# Altium schematic symbol library WR-TBL_Rising Cage Clamp.SchLib: 435 symbols (part 6 of 7)
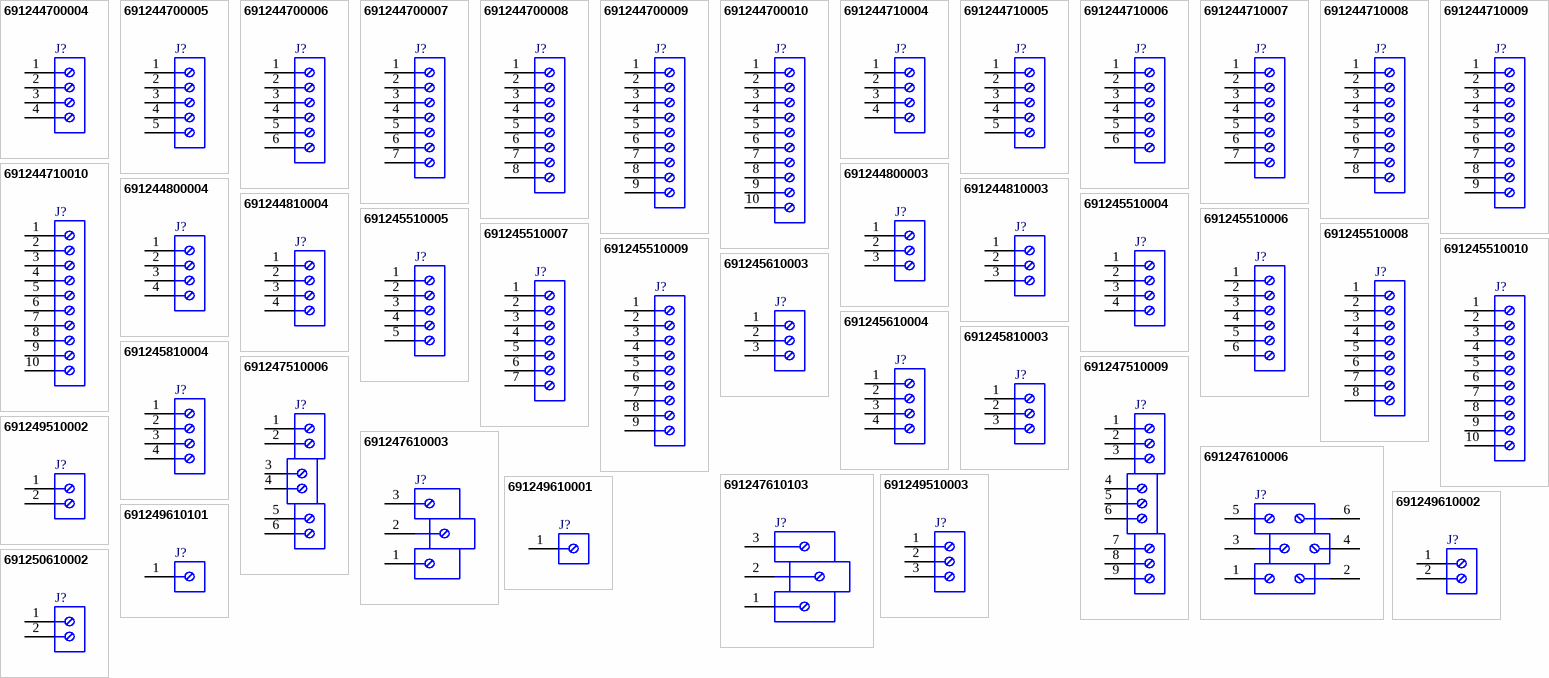
[diagram p15: symbols 691244700004 to 691250610002]

## 691245510010
designator J?
WR-TBL Serie 2455 Horizontal Cable Entry, Rising Cage Clamp, pitch 5.08mm, 10p; Part Number: 691245510010; Compliance: Lead free / RoHS; Modularity: No; PCB/Cable/Panel: PCB; Pin Number: 10; Rated Current [UL]: 16A; Working Voltage [UL]: 300VAC; ComponentLink1Description: Manufacturer; ComponentLink1URL: http://www.we-online.de; ComponentLink2URL: https://katalog.we-online.de/em/datasheet/691245510010.pdf; ComponentLink2Description: Datasheet; Mounting Technology: THT; Packaging: Box; Operating Temperature: -30 to +120degC; Pitch: 5.08mm; Published Date: October 2019; Type: Horizontal; Publisher: Wurth Elektronik; Application: Rising Cage Clamp
footprint 691245510010
pins: 1, 2, 3, 4, 5, 6, 7, 8, 9, 10

## 691245610003
designator J?
WR-TBL Serie 2456 Horizontal Cable Entry, Rising Cage Clamp, pitch 10.16mm, 3p; Part Number: 691245610003; Compliance: Lead free / RoHS; Modularity: No; PCB/Cable/Panel: PCB; Pin Number: 3; Rated Current [UL]: 16A; Working Voltage [UL]: 300VAC; ComponentLink1Description: Manufacturer; ComponentLink1URL: http://www.we-online.de; ComponentLink2URL: https://katalog.we-online.de/em/datasheet/691245610003.pdf; ComponentLink2Description: Datasheet; Mounting Technology: THT; Packaging: Box; Operating Temperature: -30 to +120degC; Pitch: 10.16mm; Published Date: October 2019; Type: Horizontal; Publisher: Wurth Elektronik; Application: Rising Cage Clamp
footprint 691245610003
pins: 1, 2, 3

## 691245610004
designator J?
WR-TBL Serie 2456 Horizontal Cable Entry, Rising Cage Clamp, pitch 10.16mm, 4p; Part Number: 691245610004; Compliance: Lead free / RoHS; Modularity: No; PCB/Cable/Panel: PCB; Pin Number: 4; Rated Current [UL]: 16A; Working Voltage [UL]: 300VAC; ComponentLink1Description: Manufacturer; ComponentLink1URL: http://www.we-online.de; ComponentLink2URL: https://katalog.we-online.de/em/datasheet/691245610004.pdf; ComponentLink2Description: Datasheet; Mounting Technology: THT; Packaging: Box; Operating Temperature: -30 to +120degC; Pitch: 10.16mm; Published Date: October 2019; Type: Horizontal; Publisher: Wurth Elektronik; Application: Rising Cage Clamp
footprint 691245610004
pins: 1, 2, 3, 4

## 691245810003
designator J?
WR-TBL Serie 2458 Horizontal Entry, Rising Cage Clamp, pitch 10mm, 3p; Part Number: 691245810003; Compliance: Lead free / RoHS; Modularity: No; PCB/Cable/Panel: PCB; Pin Number: 3; Rated Current [UL]: 16A; Working Voltage [UL]: 300VAC; ComponentLink1Description: Manufacturer; ComponentLink1URL: http://www.we-online.de; ComponentLink2URL: https://katalog.we-online.de/em/datasheet/691245810003.pdf; ComponentLink2Description: Datasheet; Mounting Technology: THT; Packaging: Box; Operating Temperature: -30 to +120degC; Pitch: 10mm; Published Date: October 2019; Type: Horizontal; Publisher: Wurth Elektronik; Application: Rising Cage Clamp
footprint 691245810003
pins: 1, 2, 3

## 691245810004
designator J?
WR-TBL Serie 2458 Horizontal Entry, Rising Cage Clamp, pitch 10mm, 4p; Part Number: 691245810004; Compliance: Lead free / RoHS; Modularity: No; PCB/Cable/Panel: PCB; Pin Number: 4; Rated Current [UL]: 16A; Working Voltage [UL]: 300VAC; ComponentLink1Description: Manufacturer; ComponentLink1URL: http://www.we-online.de; ComponentLink2URL: https://katalog.we-online.de/em/datasheet/691245810004.pdf; ComponentLink2Description: Datasheet; Mounting Technology: THT; Packaging: Box; Operating Temperature: -30 to +120degC; Pitch: 10mm; Published Date: October 2019; Type: Horizontal; Publisher: Wurth Elektronik; Application: Rising Cage Clamp
footprint 691245810004
pins: 1, 2, 3, 4

## 691247510006
designator J?
WR-TBL Serie 2475 Tripel Level Horizontal Entry, Rising Cage Clamp, pitch 5.08mm, 6p; Part Number: 691247510006; Compliance: Lead free / RoHS; Modularity: Yes; PCB/Cable/Panel: PCB; Pin Number: 6; Rated Current [UL]: 20A; Working Voltage [UL]: 300VAC; ComponentLink1Description: Manufacturer; ComponentLink1URL: http://www.we-online.de; ComponentLink2URL: https://katalog.we-online.de/em/datasheet/691247510006.pdf; ComponentLink2Description: Datasheet; Mounting Technology: THT; Packaging: Box; Operating Temperature: -30 to +120degC; Pitch: 5.08mm; Published Date: October 2019; Type: Tripel Level Horizontal; Publisher: Wurth Elektronik; Application: Rising Cage Clamp
footprint 691247510006
pins: 1, 2, 3, 4, 5, 6

## 691247510009
designator J?
WR-TBL Serie 2475 Tripel Level Horizontal Entry, Rising Cage Clamp, pitch 5.08mm, 9p; Part Number: 691247510009; Compliance: Lead free / RoHS; Modularity: Yes; PCB/Cable/Panel: PCB; Pin Number: 9; Rated Current [UL]: 20A; Working Voltage [UL]: 300VAC; ComponentLink1Description: Manufacturer; ComponentLink1URL: http://www.we-online.de; ComponentLink2URL: https://katalog.we-online.de/em/datasheet/691247510009.pdf; ComponentLink2Description: Datasheet; Mounting Technology: THT; Packaging: Box; Operating Temperature: -30 to +120degC; Pitch: 5.08mm; Published Date: October 2019; Type: Tripel Level Horizontal; Publisher: Wurth Elektronik; Application: Rising Cage Clamp
footprint 691247510009
pins: 1, 2, 3, 4, 5, 6, 7, 8, 9

## 691247610003
designator J?
WR-TBL Serie 2476 Tripel Level Horizontal Entry, Rising Cage Clamp, pitch 10.16mm, 3p; Part Number: 691247610003; Compliance: Lead free / RoHS; Modularity: Yes; PCB/Cable/Panel: PCB; Pin Number: 3; Rated Current [UL]: 20A; Working Voltage [UL]: 300VAC; ComponentLink1Description: Manufacturer; ComponentLink1URL: http://www.we-online.de; ComponentLink2URL: https://katalog.we-online.de/em/datasheet/691247610003.pdf; ComponentLink2Description: Datasheet; Mounting Technology: THT; Packaging: Box; Operating Temperature: -30 to +120degC; Pitch: 10.16mm; Published Date: October 2019; Type: Tripel Level Horizontal; Publisher: Wurth Elektronik; Application: Rising Cage Clamp
footprint 691247610003
pins: 1, 2, 3

## 691247610006
designator J?
WR-TBL Serie 2476 Tripel Level Horizontal Entry, Rising Cage Clamp, pitch 10.16mm, 6p; Part Number: 691247610006; Compliance: Lead free / RoHS; Modularity: Yes; PCB/Cable/Panel: PCB; Pin Number: 6; Rated Current [UL]: 20A; Working Voltage [UL]: 300VAC; ComponentLink1Description: Manufacturer; ComponentLink1URL: http://www.we-online.de; ComponentLink2URL: https://katalog.we-online.de/em/datasheet/691247610006.pdf; ComponentLink2Description: Datasheet; Mounting Technology: THT; Packaging: Box; Operating Temperature: -30 to +120degC; Pitch: 10.16mm; Published Date: October 2019; Type: Tripel Level Horizontal; Publisher: Wurth Elektronik; Application: Rising Cage Clamp
footprint 691247610006
pins: 1, 2, 3, 4, 5, 6

## 691247610103
designator J?
WR-TBL Serie 2476 Tripel Level Horizontal Entry, Rising Cage Clamp, pitch 10.16mm, 3p; Part Number: 691247610103; Compliance: Lead free / RoHS; Modularity: Yes; PCB/Cable/Panel: PCB; Pin Number: 3; Rated Current [UL]: 20A; Working Voltage [UL]: 300VAC; ComponentLink1Description: Manufacturer; ComponentLink1URL: http://www.we-online.de; ComponentLink2URL: https://katalog.we-online.de/em/datasheet/691247610103.pdf; ComponentLink2Description: Datasheet; Mounting Technology: THT; Packaging: Box; Operating Temperature: -30 to +120degC; Pitch: 10.16mm; Published Date: October 2019; Type: Tripel Level Horizontal; Publisher: Wurth Elektronik; Application: Rising Cage Clamp
footprint 691247610103
pins: 1, 2, 3

## 691249510002
designator J?
WR-TBL Serie 2495 Horizontal Entry, Rising Cage Clamp, pitch 5.08mm, 2p; Part Number: 691249510002; Compliance: Lead free / RoHS; Modularity: Yes; PCB/Cable/Panel: PCB; Pin Number: 2; Rated Current [UL]: 20A; Working Voltage [UL]: 300VAC; ComponentLink1Description: Manufacturer; ComponentLink1URL: http://www.we-online.de; ComponentLink2URL: https://katalog.we-online.de/em/datasheet/691249510002.pdf; ComponentLink2Description: Datasheet; Mounting Technology: THT; Packaging: Box; Operating Temperature: -30 to +120degC; Pitch: 5.08mm; Published Date: October 2019; Type: Horizontal; Publisher: Wurth Elektronik; Application: Rising Cage Clamp
footprint 691249510002
pins: 1, 2

## 691249510003
designator J?
WR-TBL Serie 2495 Horizontal Entry, Rising Cage Clamp, pitch 5.08mm, 3p; Part Number: 691249510003; Compliance: Lead free / RoHS; Modularity: Yes; PCB/Cable/Panel: PCB; Pin Number: 3; Rated Current [UL]: 20A; Working Voltage [UL]: 300VAC; ComponentLink1Description: Manufacturer; ComponentLink1URL: http://www.we-online.de; ComponentLink2URL: https://katalog.we-online.de/em/datasheet/691249510003.pdf; ComponentLink2Description: Datasheet; Mounting Technology: THT; Packaging: Box; Operating Temperature: -30 to +120degC; Pitch: 5.08mm; Published Date: October 2019; Type: Horizontal; Publisher: Wurth Elektronik; Application: Rising Cage Clamp
footprint 691249510003
pins: 1, 2, 3

## 691249610001
designator J?
WR-TBL Serie 2496 Horizontal Entry, Rising Cage Clamp, pitch 10.16mm, 1p; Part Number: 691249610001; Compliance: Lead free / RoHS; Modularity: Yes; PCB/Cable/Panel: PCB; Pin Number: 1; Rated Current [UL]: 20A; Working Voltage [UL]: 300VAC; ComponentLink1Description: Manufacturer; ComponentLink1URL: http://www.we-online.de; ComponentLink2URL: https://katalog.we-online.de/em/datasheet/691249610001.pdf; ComponentLink2Description: Datasheet; Mounting Technology: THT; Packaging: Box; Operating Temperature: -30 to +120degC; Pitch: 10.16mm; Published Date: October 2019; Type: Horizontal; Publisher: Wurth Elektronik; Application: Rising Cage Clamp
footprint 691249610001
pins: 1

## 691249610002
designator J?
WR-TBL Serie 2496 Horizontal Entry, Rising Cage Clamp, pitch 10.16mm, 2p; Part Number: 691249610002; Compliance: Lead free / RoHS; Modularity: Yes; PCB/Cable/Panel: PCB; Pin Number: 2; Rated Current [UL]: 20A; Working Voltage [UL]: 300VAC; ComponentLink1Description: Manufacturer; ComponentLink1URL: http://www.we-online.de; ComponentLink2URL: https://katalog.we-online.de/em/datasheet/691249610002.pdf; ComponentLink2Description: Datasheet; Mounting Technology: THT; Packaging: Box; Operating Temperature: -30 to +120degC; Pitch: 10.16mm; Published Date: October 2019; Type: Horizontal; Publisher: Wurth Elektronik; Application: Rising Cage Clamp
footprint 691249610002
pins: 1, 2

## 691249610101
designator J?
WR-TBL Serie 2496 Horizontal Entry, Rising Cage Clamp, pitch 10.16mm, 1p; Part Number: 691249610101; Compliance: Lead free / RoHS; Modularity: Yes; PCB/Cable/Panel: PCB; Pin Number: 1; Rated Current [UL]: 20A; Working Voltage [UL]: 300VAC; ComponentLink1Description: Manufacturer; ComponentLink1URL: http://www.we-online.de; ComponentLink2URL: https://katalog.we-online.de/em/datasheet/691249610101.pdf; ComponentLink2Description: Datasheet; Mounting Technology: THT; Packaging: Box; Operating Temperature: -30 to +120degC; Pitch: 10.16mm; Published Date: October 2019; Type: Horizontal; Publisher: Wurth Elektronik; Application: Rising Cage Clamp
footprint 691249610101
pins: 1

## 691250610002
designator J?
WR-TBL Serie 2506 Horizontal Entry Modular, Rising Cage Clamp, pitch 6.35mm, 2p; Part Number: 691250610002; Compliance: ROHS & Reach; Modularity: Yes; PCB/Cable/Panel: PCB; Pin Number: 2; Rated Current [UL]: 24A; Working Voltage [UL]: 300VAC; ComponentLink1Description: Manufacturer; ComponentLink1URL: http://www.we-online.de; ComponentLink2URL: https://katalog.we-online.de/em/datasheet/691250610002.pdf; ComponentLink2Description: Datasheet; Mounting Technology: THT; Packaging: Box; Operating Temperature: -30 to +120degC; Pitch: 6.35mm; Published Date: October 2019; Type: Horizontal; Publisher: Wurth Elektronik; Application: Rising Cage Clamp
footprint 691250610002
pins: 1, 2

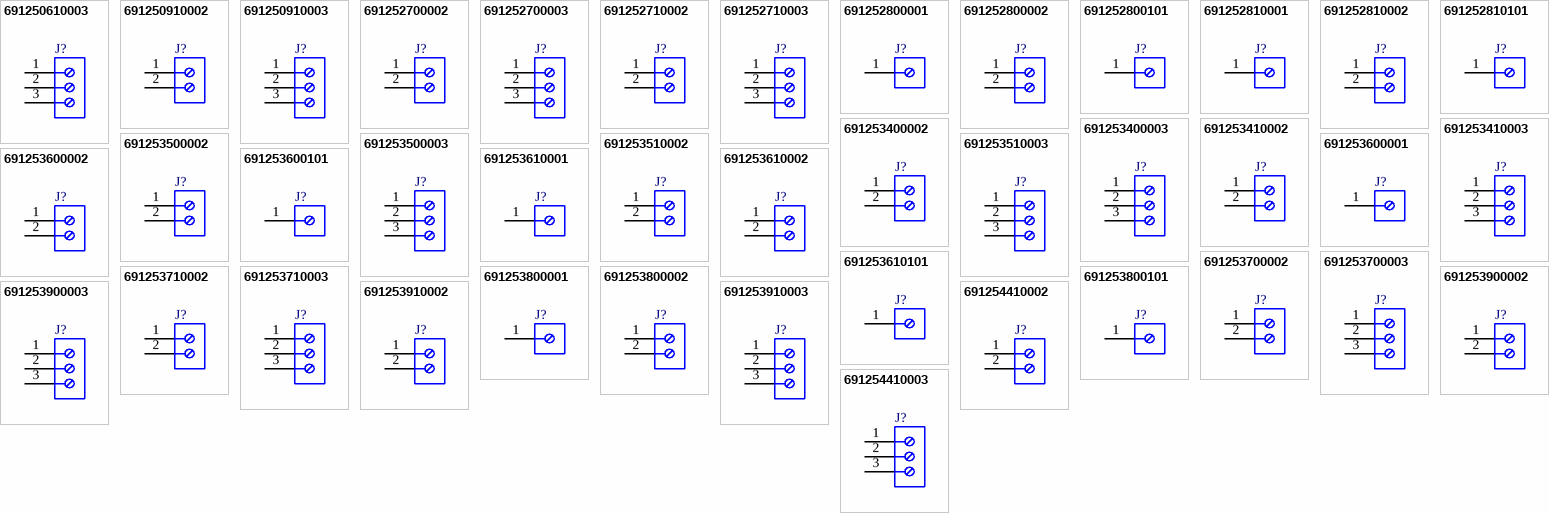
[diagram p9: symbols 691250610003 to 691254410003]

## 691250610003
designator J?
WR-TBL Serie 2506 Horizontal Entry Modular, Rising Cage Clamp, pitch 6.35mm, 3p; Part Number: 691250610003; Compliance: ROHS & Reach; Modularity: Yes; PCB/Cable/Panel: PCB; Pin Number: 3; Rated Current [UL]: 24A; Working Voltage [UL]: 300VAC; ComponentLink1Description: Manufacturer; ComponentLink1URL: http://www.we-online.de; ComponentLink2URL: https://katalog.we-online.de/em/datasheet/691250610003.pdf; ComponentLink2Description: Datasheet; Mounting Technology: THT; Packaging: Box; Operating Temperature: -30 to +120degC; Pitch: 6.35mm; Published Date: October 2019; Type: Horizontal; Publisher: Wurth Elektronik; Application: Rising Cage Clamp
footprint 691250610003
pins: 1, 2, 3

## 691250910002
designator J?
WR-TBL Serie 2509 Horizontal Entry Modular, Rising Cage Clamp, pitch 9.52mm, 2p; Part Number: 691250910002; Compliance: ROHS & Reach; Modularity: Yes; PCB/Cable/Panel: PCB; Pin Number: 2; Rated Current [UL]: 24A; Working Voltage [UL]: 300VAC; ComponentLink1Description: Manufacturer; ComponentLink1URL: http://www.we-online.de; ComponentLink2URL: https://katalog.we-online.de/em/datasheet/691250910002.pdf; ComponentLink2Description: Datasheet; Mounting Technology: THT; Packaging: Box; Operating Temperature: -30 to +120degC; Pitch: 9.52mm; Published Date: October 2019; Type: Horizontal; Publisher: Wurth Elektronik; Application: Rising Cage Clamp
footprint 691250910002
pins: 1, 2

## 691250910003
designator J?
WR-TBL Serie 2509 Horizontal Entry Modular, Rising Cage Clamp, pitch 9.52mm, 3p; Part Number: 691250910003; Compliance: ROHS & Reach; Modularity: Yes; PCB/Cable/Panel: PCB; Pin Number: 3; Rated Current [UL]: 24A; Working Voltage [UL]: 300VAC; ComponentLink1Description: Manufacturer; ComponentLink1URL: http://www.we-online.de; ComponentLink2URL: https://katalog.we-online.de/em/datasheet/691250910003.pdf; ComponentLink2Description: Datasheet; Mounting Technology: THT; Packaging: Box; Operating Temperature: -30 to +120degC; Pitch: 9.52mm; Published Date: October 2019; Type: Horizontal; Publisher: Wurth Elektronik; Application: Rising Cage Clamp
footprint 691250910003
pins: 1, 2, 3

## 691252700002
designator J?
WR-TBL Serie 2527 Vertical Entry Modular, Rising Cage Clamp, pitch 5mm, 2p; Part Number: 691252700002; Compliance: ROHS & Reach; Modularity: Yes; PCB/Cable/Panel: PCB; Pin Number: 2; Rated Current [UL]: 16A; Working Voltage [UL]: 300VAC; ComponentLink1Description: Manufacturer; ComponentLink1URL: http://www.we-online.de; ComponentLink2URL: https://katalog.we-online.de/em/datasheet/691252700002.pdf; ComponentLink2Description: Datasheet; Mounting Technology: THT; Packaging: Box; Operating Temperature: -30 to +120degC; Pitch: 5mm; Published Date: October 2019; Type: Vertical; Publisher: Wurth Elektronik; Application: Rising Cage Clamp
footprint 691252700002
pins: 1, 2

## 691252700003
designator J?
WR-TBL Serie 2527 Vertical Entry Modular, Rising Cage Clamp, pitch 5mm, 3p; Part Number: 691252700003; Compliance: ROHS & Reach; Modularity: Yes; PCB/Cable/Panel: PCB; Pin Number: 3; Rated Current [UL]: 16A; Working Voltage [UL]: 300VAC; ComponentLink1Description: Manufacturer; ComponentLink1URL: http://www.we-online.de; ComponentLink2URL: https://katalog.we-online.de/em/datasheet/691252700003.pdf; ComponentLink2Description: Datasheet; Mounting Technology: THT; Packaging: Box; Operating Temperature: -30 to +120degC; Pitch: 5mm; Published Date: October 2019; Type: Vertical; Publisher: Wurth Elektronik; Application: Rising Cage Clamp
footprint 691252700003
pins: 1, 2, 3

## 691252710002
designator J?
WR-TBL Serie 2527 Horizontal Entry Modular, Rising Cage Clamp, pitch 5mm, 2p; Part Number: 691252710002; Compliance: ROHS & Reach; Modularity: Yes; PCB/Cable/Panel: PCB; Pin Number: 2; Rated Current [UL]: 16A; Working Voltage [UL]: 300VAC; ComponentLink1Description: Manufacturer; ComponentLink1URL: http://www.we-online.de; ComponentLink2URL: https://katalog.we-online.de/em/datasheet/691252710002.pdf; ComponentLink2Description: Datasheet; Mounting Technology: THT; Packaging: Box; Operating Temperature: -30 to +120degC; Pitch: 5mm; Published Date: October 2019; Type: Horizontal; Publisher: Wurth Elektronik; Application: Rising Cage Clamp
footprint 691252710002
pins: 1, 2

## 691252710003
designator J?
WR-TBL Serie 2527 Horizontal Entry Modular, Rising Cage Clamp, pitch 5mm, 3p; Part Number: 691252710003; Compliance: ROHS & Reach; Modularity: Yes; PCB/Cable/Panel: PCB; Pin Number: 3; Rated Current [UL]: 16A; Working Voltage [UL]: 300VAC; ComponentLink1Description: Manufacturer; ComponentLink1URL: http://www.we-online.de; ComponentLink2URL: https://katalog.we-online.de/em/datasheet/691252710003.pdf; ComponentLink2Description: Datasheet; Mounting Technology: THT; Packaging: Box; Operating Temperature: -30 to +120degC; Pitch: 5mm; Published Date: October 2019; Type: Horizontal; Publisher: Wurth Elektronik; Application: Rising Cage Clamp
footprint 691252710003
pins: 1, 2, 3

## 691252800001
designator J?
WR-TBL Serie 2528 Vertical Entry Modular, Rising Cage Clamp, pitch 10mm, 1p; Part Number: 691252800001; Compliance: Lead free / RoHS; Modularity: Yes; PCB/Cable/Panel: PCB; Pin Number: 1; Rated Current [UL]: 16A; Working Voltage [UL]: 300VAC; ComponentLink1Description: Manufacturer; ComponentLink1URL: http://www.we-online.de; ComponentLink2URL: https://katalog.we-online.de/em/datasheet/691252800001.pdf; ComponentLink2Description: Datasheet; Mounting Technology: THT; Packaging: Box; Operating Temperature: -30 to +120degC; Pitch: 10mm; Published Date: October 2019; Type: Vertical; Publisher: Wurth Elektronik; Application: Rising Cage Clamp
footprint 691252800001
pins: 1

## 691252800002
designator J?
WR-TBL Serie 2528 Vertical Entry Modular, Rising Cage Clamp, pitch 10mm, 2p; Part Number: 691252800002; Compliance: Lead free / RoHS; Modularity: Yes; PCB/Cable/Panel: PCB; Pin Number: 2; Rated Current [UL]: 16A; Working Voltage [UL]: 300VAC; ComponentLink1Description: Manufacturer; ComponentLink1URL: http://www.we-online.de; ComponentLink2URL: https://katalog.we-online.de/em/datasheet/691252800002.pdf; ComponentLink2Description: Datasheet; Mounting Technology: THT; Packaging: Box; Operating Temperature: -30 to +120degC; Pitch: 10mm; Published Date: October 2019; Type: Vertical; Publisher: Wurth Elektronik; Application: Rising Cage Clamp
footprint 691252800002
pins: 1, 2

## 691252800101
designator J?
WR-TBL Serie 2528 Vertical Entry Modular, Rising Cage Clamp, pitch 10mm, 1p; Part Number: 691252800101; Compliance: Lead free / RoHS; Modularity: Yes; PCB/Cable/Panel: PCB; Pin Number: 1; Rated Current [UL]: 16A; Working Voltage [UL]: 300VAC; ComponentLink1Description: Manufacturer; ComponentLink1URL: http://www.we-online.de; ComponentLink2URL: https://katalog.we-online.de/em/datasheet/691252800101.pdf; ComponentLink2Description: Datasheet; Mounting Technology: THT; Packaging: Box; Operating Temperature: -30 to +120degC; Pitch: 10mm; Published Date: October 2019; Type: Vertical; Publisher: Wurth Elektronik; Application: Rising Cage Clamp
footprint 691252800101
pins: 1

## 691252810001
designator J?
WR-TBL Serie 2528 Horizontal Entry Modular, Rising Cage Clamp, pitch 10mm, 1p; Part Number: 691252810001; Compliance: RoHS; Modularity: Yes; PCB/Cable/Panel: PCB; Pin Number: 1; Rated Current [UL]: 16A; Working Voltage [UL]: 300VAC; ComponentLink1Description: Manufacturer; ComponentLink1URL: http://www.we-online.de; ComponentLink2URL: https://katalog.we-online.de/em/datasheet/691252810001.pdf; ComponentLink2Description: Datasheet; Mounting Technology: THT; Packaging: Box; Operating Temperature: -30 to +120degC; Pitch: 10mm; Published Date: October 2019; Type: Horizontal; Publisher: Wurth Elektronik; Application: Rising Cage Clamp
footprint 691252810001
pins: 1

## 691252810002
designator J?
WR-TBL Serie 2528 Horizontal Entry Modular, Rising Cage Clamp, pitch 10mm, 2p; Part Number: 691252810002; Compliance: RoHS; Modularity: Yes; PCB/Cable/Panel: PCB; Pin Number: 2; Rated Current [UL]: 16A; Working Voltage [UL]: 300VAC; ComponentLink1Description: Manufacturer; ComponentLink1URL: http://www.we-online.de; ComponentLink2URL: https://katalog.we-online.de/em/datasheet/691252810002.pdf; ComponentLink2Description: Datasheet; Mounting Technology: THT; Packaging: Box; Operating Temperature: -30 to +120degC; Pitch: 10mm; Published Date: October 2019; Type: Horizontal; Publisher: Wurth Elektronik; Application: Rising Cage Clamp
footprint 691252810002
pins: 1, 2

## 691252810101
designator J?
WR-TBL Serie 2528 Horizontal Entry Modular, Rising Cage Clamp, pitch 10mm, 1p; Part Number: 691252810101; Compliance: RoHS; Modularity: Yes; PCB/Cable/Panel: PCB; Pin Number: 1; Rated Current [UL]: 16A; Working Voltage [UL]: 300VAC; ComponentLink1Description: Manufacturer; ComponentLink1URL: http://www.we-online.de; ComponentLink2URL: https://katalog.we-online.de/em/datasheet/691252810101.pdf; ComponentLink2Description: Datasheet; Mounting Technology: THT; Packaging: Box; Operating Temperature: -30 to +120degC; Pitch: 10mm; Published Date: October 2019; Type: Horizontal; Publisher: Wurth Elektronik; Application: Rising Cage Clamp
footprint 691252810101
pins: 1

## 691253400002
designator J?
WR-TBL Serie 2534 Vertical Entry Modular, Rising Cage Clamp, pitch 7.62mm, 2p; Part Number: 691253400002; Compliance: ROHS; Modularity: Yes; PCB/Cable/Panel: PCB; Pin Number: 2; Rated Current [UL]: 16A; Working Voltage [UL]: 300VAC; ComponentLink1Description: Manufacturer; ComponentLink1URL: http://www.we-online.de; ComponentLink2URL: https://katalog.we-online.de/em/datasheet/691253400002.pdf; ComponentLink2Description: Datasheet; Mounting Technology: THT; Packaging: Box; Operating Temperature: -30 to +120degC; Pitch: 7.62mm; Published Date: October 2019; Type: Vertical; Publisher: Wurth Elektronik; Application: Rising Cage Clamp
footprint 691253400002
pins: 1, 2

## 691253400003
designator J?
WR-TBL Serie 2534 Vertical Entry Modular, Rising Cage Clamp, pitch 7.62mm, 3p; Part Number: 691253400003; Compliance: ROHS; Modularity: Yes; PCB/Cable/Panel: PCB; Pin Number: 3; Rated Current [UL]: 16A; Working Voltage [UL]: 300VAC; ComponentLink1Description: Manufacturer; ComponentLink1URL: http://www.we-online.de; ComponentLink2URL: https://katalog.we-online.de/em/datasheet/691253400003.pdf; ComponentLink2Description: Datasheet; Mounting Technology: THT; Packaging: Box; Operating Temperature: -30 to +120degC; Pitch: 7.62mm; Published Date: October 2019; Type: Vertical; Publisher: Wurth Elektronik; Application: Rising Cage Clamp
footprint 691253400003
pins: 1, 2, 3

## 691253410002
designator J?
WR-TBL Serie 2534 Horizontal Entry Modular, Rising Cage Clamp, pitch 7.62mm, 2p; Part Number: 691253410002; Compliance: ROHS & Reach; Modularity: Yes; PCB/Cable/Panel: PCB; Pin Number: 2; Rated Current [UL]: 16A; Working Voltage [UL]: 300VAC; ComponentLink1Description: Manufacturer; ComponentLink1URL: http://www.we-online.de; ComponentLink2URL: https://katalog.we-online.de/em/datasheet/691253410002.pdf; ComponentLink2Description: Datasheet; Mounting Technology: THT; Packaging: Box; Operating Temperature: -30 to +120degC; Pitch: 7.62mm; Published Date: October 2019; Type: Horizontal; Publisher: Wurth Elektronik; Application: Rising Cage Clamp
footprint 691253410002
pins: 1, 2

## 691253410003
designator J?
WR-TBL Serie 2534 Horizontal Entry Modular, Rising Cage Clamp, pitch 7.62mm, 3p; Part Number: 691253410003; Compliance: ROHS & Reach; Modularity: Yes; PCB/Cable/Panel: PCB; Pin Number: 3; Rated Current [UL]: 16A; Working Voltage [UL]: 300VAC; ComponentLink1Description: Manufacturer; ComponentLink1URL: http://www.we-online.de; ComponentLink2URL: https://katalog.we-online.de/em/datasheet/691253410003.pdf; ComponentLink2Description: Datasheet; Mounting Technology: THT; Packaging: Box; Operating Temperature: -30 to +120degC; Pitch: 7.62mm; Published Date: October 2019; Type: Horizontal; Publisher: Wurth Elektronik; Application: Rising Cage Clamp
footprint 691253410003
pins: 1, 2, 3

## 691253500002
designator J?
WR-TBL Serie 2535 Vertical Entry Modular, Rising Cage Clamp, pitch 5.08mm, 2p; Part Number: 691253500002; Compliance: RoHS; Modularity: No; PCB/Cable/Panel: PCB; Pin Number: 2; Rated Current [UL]: 16A; Working Voltage [UL]: 300VAC; ComponentLink1Description: Manufacturer; ComponentLink1URL: http://www.we-online.de; ComponentLink2URL: https://katalog.we-online.de/em/datasheet/691253500002.pdf; ComponentLink2Description: Datasheet; Mounting Technology: THT; Packaging: Box; Operating Temperature: -30 to +120degC; Pitch: 5.08mm; Published Date: October 2019; Type: Vertical; Publisher: Wurth Elektronik; Application: Rising Cage Clamp
footprint 691253500002
pins: 1, 2

## 691253500003
designator J?
WR-TBL Serie 2535 Vertical Entry Modular, Rising Cage Clamp, pitch 5.08mm, 3p; Part Number: 691253500003; Compliance: RoHS; Modularity: No; PCB/Cable/Panel: PCB; Pin Number: 3; Rated Current [UL]: 16A; Working Voltage [UL]: 300VAC; ComponentLink1Description: Manufacturer; ComponentLink1URL: http://www.we-online.de; ComponentLink2URL: https://katalog.we-online.de/em/datasheet/691253500003.pdf; ComponentLink2Description: Datasheet; Mounting Technology: THT; Packaging: Box; Operating Temperature: -30 to +120degC; Pitch: 5.08mm; Published Date: October 2019; Type: Vertical; Publisher: Wurth Elektronik; Application: Rising Cage Clamp
footprint 691253500003
pins: 1, 2, 3

## 691253510002
designator J?
WR-TBL Serie 2535 Horizontal Entry Modular, Rising Cage Clamp, pitch 5.08mm, 2p; Part Number: 691253510002; Compliance: Lead free / RoHS; Modularity: Yes; PCB/Cable/Panel: PCB; Pin Number: 2; Rated Current [UL]: 16A; Working Voltage [UL]: 300VAC; ComponentLink1Description: Manufacturer; ComponentLink1URL: http://www.we-online.de; ComponentLink2URL: https://katalog.we-online.de/em/datasheet/691253510002.pdf; ComponentLink2Description: Datasheet; Mounting Technology: THT; Packaging: Box; Operating Temperature: -30 to +120degC; Pitch: 5.08mm; Published Date: October 2019; Type: Horizontal; Publisher: Wurth Elektronik; Application: Rising Cage Clamp
footprint 691253510002
pins: 1, 2

## 691253510003
designator J?
WR-TBL Serie 2535 Horizontal Entry Modular, Rising Cage Clamp, pitch 5.08mm, 3p; Part Number: 691253510003; Compliance: Lead free / RoHS; Modularity: Yes; PCB/Cable/Panel: PCB; Pin Number: 3; Rated Current [UL]: 16A; Working Voltage [UL]: 300VAC; ComponentLink1Description: Manufacturer; ComponentLink1URL: http://www.we-online.de; ComponentLink2URL: https://katalog.we-online.de/em/datasheet/691253510003.pdf; ComponentLink2Description: Datasheet; Mounting Technology: THT; Packaging: Box; Operating Temperature: -30 to +120degC; Pitch: 5.08mm; Published Date: October 2019; Type: Horizontal; Publisher: Wurth Elektronik; Application: Rising Cage Clamp
footprint 691253510003
pins: 1, 2, 3

## 691253600001
designator J?
WR-TBL Serie 2536 Vertical Entry Modular, Rising Cage Clamp, pitch 10.16mm, 1p; Part Number: 691253600001; Compliance: RoHS; Modularity: Yes; PCB/Cable/Panel: PCB; Pin Number: 1; Rated Current [UL]: 16A; Working Voltage [UL]: 300VAC; ComponentLink1Description: Manufacturer; ComponentLink1URL: http://www.we-online.de; ComponentLink2URL: https://katalog.we-online.de/em/datasheet/691253600001.pdf; ComponentLink2Description: Datasheet; Mounting Technology: THT; Packaging: Box; Operating Temperature: -30 to +120degC; Pitch: 10.16mm; Published Date: October 2019; Type: Vertical; Publisher: Wurth Elektronik; Application: Rising Cage Clamp
footprint 691253600001
pins: 1

## 691253600002
designator J?
WR-TBL Serie 2536 Vertical Entry Modular, Rising Cage Clamp, pitch 10.16mm, 2p; Part Number: 691253600002; Compliance: RoHS; Modularity: Yes; PCB/Cable/Panel: PCB; Pin Number: 2; Rated Current [UL]: 16A; Working Voltage [UL]: 300VAC; ComponentLink1Description: Manufacturer; ComponentLink1URL: http://www.we-online.de; ComponentLink2URL: https://katalog.we-online.de/em/datasheet/691253600002.pdf; ComponentLink2Description: Datasheet; Mounting Technology: THT; Packaging: Box; Operating Temperature: -30 to +120degC; Pitch: 10.16mm; Published Date: October 2019; Type: Vertical; Publisher: Wurth Elektronik; Application: Rising Cage Clamp
footprint 691253600002
pins: 1, 2

## 691253600101
designator J?
WR-TBL Serie 2536 Vertical Entry Modular, Rising Cage Clamp, pitch 10.16mm, 1p; Part Number: 691253600101; Compliance: RoHS; Modularity: Yes; PCB/Cable/Panel: PCB; Pin Number: 1; Rated Current [UL]: 16A; Working Voltage [UL]: 300VAC; ComponentLink1Description: Manufacturer; ComponentLink1URL: http://www.we-online.de; ComponentLink2URL: https://katalog.we-online.de/em/datasheet/691253600101.pdf; ComponentLink2Description: Datasheet; Mounting Technology: THT; Packaging: Box; Operating Temperature: -30 to +120degC; Pitch: 10.16mm; Published Date: October 2019; Type: Vertical; Publisher: Wurth Elektronik; Application: Rising Cage Clamp
footprint 691253600101
pins: 1

## 691253610001
designator J?
WR-TBL Serie 2536 Horizontal Entry Modular, Rising Cage Clamp, pitch 10.16mm, 1p; Part Number: 691253610001; Compliance: ROHS & Reach; Modularity: Yes; PCB/Cable/Panel: PCB; Pin Number: 1; Rated Current [UL]: 16A; Working Voltage [UL]: 300VAC; ComponentLink1Description: Manufacturer; ComponentLink1URL: http://www.we-online.de; ComponentLink2URL: https://katalog.we-online.de/em/datasheet/691253610001.pdf; ComponentLink2Description: Datasheet; Mounting Technology: THT; Packaging: Box; Operating Temperature: -30 to +120degC; Pitch: 10.16mm; Published Date: October 2019; Type: Horizontal; Publisher: Wurth Elektronik; Application: Rising Cage Clamp
footprint 691253610001
pins: 1

## 691253610002
designator J?
WR-TBL Serie 2536 Horizontal Entry Modular, Rising Cage Clamp, pitch 10.16mm, 2p; Part Number: 691253610002; Compliance: ROHS & Reach; Modularity: Yes; PCB/Cable/Panel: PCB; Pin Number: 2; Rated Current [UL]: 16A; Working Voltage [UL]: 300VAC; ComponentLink1Description: Manufacturer; ComponentLink1URL: http://www.we-online.de; ComponentLink2URL: https://katalog.we-online.de/em/datasheet/691253610002.pdf; ComponentLink2Description: Datasheet; Mounting Technology: THT; Packaging: Box; Operating Temperature: -30 to +120degC; Pitch: 10.16mm; Published Date: October 2019; Type: Horizontal; Publisher: Wurth Elektronik; Application: Rising Cage Clamp
footprint 691253610002
pins: 1, 2

## 691253610101
designator J?
WR-TBL Serie 2536 Horizontal Entry Modular, Rising Cage Clamp, pitch 10.16mm, 1p; Part Number: 691253610101; Compliance: ROHS & Reach; Modularity: Yes; PCB/Cable/Panel: PCB; Pin Number: 1; Rated Current [UL]: 16A; Working Voltage [UL]: 300VAC; ComponentLink1Description: Manufacturer; ComponentLink1URL: http://www.we-online.de; ComponentLink2URL: https://katalog.we-online.de/em/datasheet/691253610101.pdf; ComponentLink2Description: Datasheet; Mounting Technology: THT; Packaging: Box; Operating Temperature: -30 to +120degC; Pitch: 10.16mm; Published Date: October 2019; Type: Horizontal; Publisher: Wurth Elektronik; Application: Rising Cage Clamp
footprint 691253610101
pins: 1

## 691253700002
designator J?
WR-TBL Serie 2537 Vertical Entry Modular, Rising Cage Clamp, pitch 5mm, 2p; Part Number: 691253700002; Compliance: Lead free / RoHS; Modularity: Yes; PCB/Cable/Panel: PCB; Pin Number: 2; Rated Current [UL]: 16A; Working Voltage [UL]: 300VAC; ComponentLink1Description: Manufacturer; ComponentLink1URL: http://www.we-online.de; ComponentLink2URL: https://katalog.we-online.de/em/datasheet/691253700002.pdf; ComponentLink2Description: Datasheet; Mounting Technology: THT; Packaging: Box; Operating Temperature: -30 to +120degC; Pitch: 5mm; Published Date: October 2019; Type: Vertical; Publisher: Wurth Elektronik; Application: Rising Cage Clamp
footprint 691253700002
pins: 1, 2

## 691253700003
designator J?
WR-TBL Serie 2537 Vertical Entry Modular, Rising Cage Clamp, pitch 5mm, 3p; Part Number: 691253700003; Compliance: Lead free / RoHS; Modularity: Yes; PCB/Cable/Panel: PCB; Pin Number: 3; Rated Current [UL]: 16A; Working Voltage [UL]: 300VAC; ComponentLink1Description: Manufacturer; ComponentLink1URL: http://www.we-online.de; ComponentLink2URL: https://katalog.we-online.de/em/datasheet/691253700003.pdf; ComponentLink2Description: Datasheet; Mounting Technology: THT; Packaging: Box; Operating Temperature: -30 to +120degC; Pitch: 5mm; Published Date: October 2019; Type: Vertical; Publisher: Wurth Elektronik; Application: Rising Cage Clamp
footprint 691253700003
pins: 1, 2, 3

## 691253710002
designator J?
WR-TBL Serie 2537 Horizontal Entry Modular, Rising Cage Clamp, pitch 5mm, 2p; Part Number: 691253710002; Compliance: Lead free / RoHS; Modularity: Yes; PCB/Cable/Panel: PCB; Pin Number: 2; Rated Current [UL]: 16A; Working Voltage [UL]: 300VAC; ComponentLink1Description: Manufacturer; ComponentLink1URL: http://www.we-online.de; ComponentLink2URL: https://katalog.we-online.de/em/datasheet/691253710002.pdf; ComponentLink2Description: Datasheet; Mounting Technology: THT; Packaging: Box; Operating Temperature: -30 to +120degC; Pitch: 5mm; Published Date: October 2019; Type: Horizontal; Publisher: Wurth Elektronik; Application: Rising Cage Clamp
footprint 691253710002
pins: 1, 2

## 691253710003
designator J?
WR-TBL Serie 2537 Horizontal Entry Modular, Rising Cage Clamp, pitch 5mm, 3p; Part Number: 691253710003; Compliance: Lead free / RoHS; Modularity: Yes; PCB/Cable/Panel: PCB; Pin Number: 3; Rated Current [UL]: 16A; Working Voltage [UL]: 300VAC; ComponentLink1Description: Manufacturer; ComponentLink1URL: http://www.we-online.de; ComponentLink2URL: https://katalog.we-online.de/em/datasheet/691253710003.pdf; ComponentLink2Description: Datasheet; Mounting Technology: THT; Packaging: Box; Operating Temperature: -30 to +120degC; Pitch: 5mm; Published Date: October 2019; Type: Horizontal; Publisher: Wurth Elektronik; Application: Rising Cage Clamp
footprint 691253710003
pins: 1, 2, 3

## 691253800001
designator J?
WR-TBL Serie 2538 Vertical Entry Modular, Rising Cage Clamp, pitch 10mm, 1p; Part Number: 691253800001; Compliance: RoHS; Modularity: Yes; PCB/Cable/Panel: PCB; Pin Number: 1; Rated Current [UL]: 16A; Working Voltage [UL]: 300VAC; ComponentLink1Description: Manufacturer; ComponentLink1URL: http://www.we-online.de; ComponentLink2URL: https://katalog.we-online.de/em/datasheet/691253800001.pdf; ComponentLink2Description: Datasheet; Mounting Technology: THT; Packaging: Box; Operating Temperature: -30 to +120degC; Pitch: 10mm; Published Date: October 2019; Type: Vertical; Publisher: Wurth Elektronik; Application: Rising Cage Clamp
footprint 691253800001
pins: 1

## 691253800002
designator J?
WR-TBL Serie 2538 Vertical Entry Modular, Rising Cage Clamp, pitch 10mm, 2p; Part Number: 691253800002; Compliance: RoHS; Modularity: Yes; PCB/Cable/Panel: PCB; Pin Number: 2; Rated Current [UL]: 16A; Working Voltage [UL]: 300VAC; ComponentLink1Description: Manufacturer; ComponentLink1URL: http://www.we-online.de; ComponentLink2URL: https://katalog.we-online.de/em/datasheet/691253800002.pdf; ComponentLink2Description: Datasheet; Mounting Technology: THT; Packaging: Box; Operating Temperature: -30 to +120degC; Pitch: 10mm; Published Date: October 2019; Type: Vertical; Publisher: Wurth Elektronik; Application: Rising Cage Clamp
footprint 691253800002
pins: 1, 2

## 691253800101
designator J?
WR-TBL Serie 2538 Vertical Entry Modular, Rising Cage Clamp, pitch 10mm, 1p; Part Number: 691253800101; Compliance: RoHS; Modularity: Yes; PCB/Cable/Panel: PCB; Pin Number: 1; Rated Current [UL]: 16A; Working Voltage [UL]: 300VAC; ComponentLink1Description: Manufacturer; ComponentLink1URL: http://www.we-online.de; ComponentLink2URL: https://katalog.we-online.de/em/datasheet/691253800101.pdf; ComponentLink2Description: Datasheet; Mounting Technology: THT; Packaging: Box; Operating Temperature: -30 to +120degC; Pitch: 10mm; Published Date: October 2019; Type: Vertical; Publisher: Wurth Elektronik; Application: Rising Cage Clamp
footprint 691253800101
pins: 1

## 691253900002
designator J?
WR-TBL Serie 2539 Vertical Entry Modular, Rising Cage Clamp, pitch 7.5mm, 2p; Part Number: 691253900002; Compliance: ROHS; Modularity: Yes; PCB/Cable/Panel: PCB; Pin Number: 2; Rated Current [UL]: 16A; Working Voltage [UL]: 300VAC; ComponentLink1Description: Manufacturer; ComponentLink1URL: http://www.we-online.de; ComponentLink2URL: https://katalog.we-online.de/em/datasheet/691253900002.pdf; ComponentLink2Description: Datasheet; Mounting Technology: THT; Packaging: Box; Operating Temperature: -30 to +120degC; Pitch: 7.5mm; Published Date: October 2019; Type: Vertical; Publisher: Wurth Elektronik; Application: Rising Cage Clamp
footprint 691253900002
pins: 1, 2

## 691253900003
designator J?
WR-TBL Serie 2539 Vertical Entry Modular, Rising Cage Clamp, pitch 7.5mm, 3p; Part Number: 691253900003; Compliance: ROHS; Modularity: Yes; PCB/Cable/Panel: PCB; Pin Number: 3; Rated Current [UL]: 16A; Working Voltage [UL]: 300VAC; ComponentLink1Description: Manufacturer; ComponentLink1URL: http://www.we-online.de; ComponentLink2URL: https://katalog.we-online.de/em/datasheet/691253900003.pdf; ComponentLink2Description: Datasheet; Mounting Technology: THT; Packaging: Box; Operating Temperature: -30 to +120degC; Pitch: 7.5mm; Published Date: October 2019; Type: Vertical; Publisher: Wurth Elektronik; Application: Rising Cage Clamp
footprint 691253900003
pins: 1, 2, 3

## 691253910002
designator J?
WR-TBL Serie 2539 Horizontal Entry Modular, Rising Cage Clamp, pitch 7.5mm, 2p; Part Number: 691253910002; Compliance: ROHS & Reach; Modularity: Yes; PCB/Cable/Panel: PCB; Pin Number: 2; Rated Current [UL]: 16A; Working Voltage [UL]: 300VAC; ComponentLink1Description: Manufacturer; ComponentLink1URL: http://www.we-online.de; ComponentLink2URL: https://katalog.we-online.de/em/datasheet/691253910002.pdf; ComponentLink2Description: Datasheet; Mounting Technology: THT; Packaging: Box; Operating Temperature: -30 to +120degC; Pitch: 7.5mm; Published Date: October 2019; Type: Horizontal; Publisher: Wurth Elektronik; Application: Rising Cage Clamp
footprint 691253910002
pins: 1, 2

## 691253910003
designator J?
WR-TBL Serie 2539 Horizontal Entry Modular, Rising Cage Clamp, pitch 7.5mm, 3p; Part Number: 691253910003; Compliance: ROHS & Reach; Modularity: Yes; PCB/Cable/Panel: PCB; Pin Number: 3; Rated Current [UL]: 16A; Working Voltage [UL]: 300VAC; ComponentLink1Description: Manufacturer; ComponentLink1URL: http://www.we-online.de; ComponentLink2URL: https://katalog.we-online.de/em/datasheet/691253910003.pdf; ComponentLink2Description: Datasheet; Mounting Technology: THT; Packaging: Box; Operating Temperature: -30 to +120degC; Pitch: 7.5mm; Published Date: October 2019; Type: Horizontal; Publisher: Wurth Elektronik; Application: Rising Cage Clamp
footprint 691253910003
pins: 1, 2, 3

## 691254410002
designator J?
WR-TBL Serie 2544 Horizontal Entry Dual Pin, Rising Cage Clamp, pitch 7.62mm, 2p; Part Number: 691254410002; Compliance: ROHS & Reach; Modularity: Yes; PCB/Cable/Panel: PCB; Pin Number: 2; Rated Current [UL]: 16A; Working Voltage [UL]: 300VAC; ComponentLink1Description: Manufacturer; ComponentLink1URL: http://www.we-online.de; ComponentLink2URL: https://katalog.we-online.de/em/datasheet/691254410002.pdf; ComponentLink2Description: Datasheet; Mounting Technology: THT; Packaging: Box; Operating Temperature: -30 to +120degC; Pitch: 7.62mm; Published Date: October 2019; Type: Horizontal; Publisher: Wurth Elektronik; Application: Rising Cage Clamp
footprint 691254410002
pins: 1, 2

## 691254410003
designator J?
WR-TBL Serie 2544 Horizontal Entry Dual Pin, Rising Cage Clamp, pitch 7.62mm, 3p; Part Number: 691254410003; Compliance: ROHS & Reach; Modularity: Yes; PCB/Cable/Panel: PCB; Pin Number: 3; Rated Current [UL]: 16A; Working Voltage [UL]: 300VAC; ComponentLink1Description: Manufacturer; ComponentLink1URL: http://www.we-online.de; ComponentLink2URL: https://katalog.we-online.de/em/datasheet/691254410003.pdf; ComponentLink2Description: Datasheet; Mounting Technology: THT; Packaging: Box; Operating Temperature: -30 to +120degC; Pitch: 7.62mm; Published Date: October 2019; Type: Horizontal; Publisher: Wurth Elektronik; Application: Rising Cage Clamp
footprint 691254410003
pins: 1, 2, 3

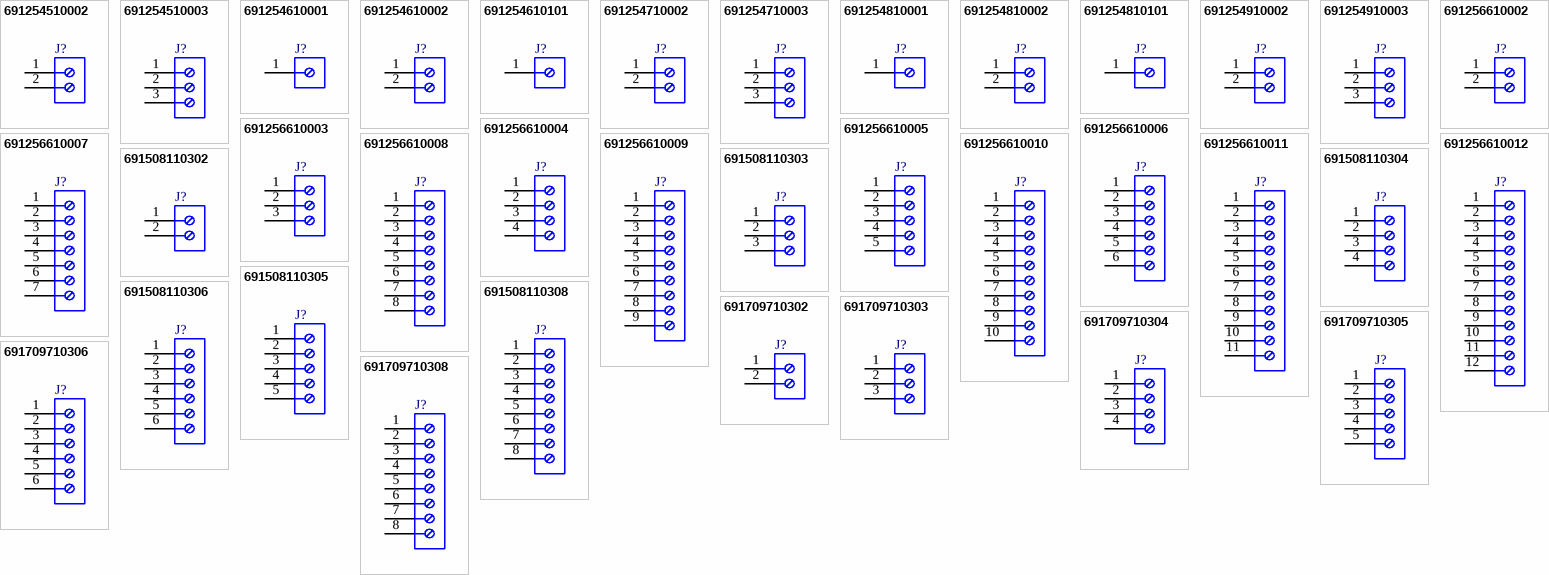
[diagram p10: symbols 691254510002 to 691709710308]

## 691254510002
designator J?
WR-TBL Serie 2545 Horizontal Cable Entry, Rising Cage Clamp, pitch 5.08mm, 2p; Part Number: 691254510002; Compliance: Lead free / RoHS; Modularity: Yes; PCB/Cable/Panel: PCB; Pin Number: 2; Rated Current [UL]: 16A; Working Voltage [UL]: 300VAC; ComponentLink1Description: Manufacturer; ComponentLink1URL: http://www.we-online.de; ComponentLink2URL: https://katalog.we-online.de/em/datasheet/691254510002.pdf; ComponentLink2Description: Datasheet; Mounting Technology: THT; Packaging: Box; Operating Temperature: -30 to +120degC; Pitch: 5.08mm; Published Date: October 2019; Type: Horizontal; Publisher: Wurth Elektronik; Application: Rising Cage Clamp
footprint 691254510002
pins: 1, 2

## 691254510003
designator J?
WR-TBL Serie 2545 Horizontal Cable Entry, Rising Cage Clamp, pitch 5.08mm, 3p; Part Number: 691254510003; Compliance: Lead free / RoHS; Modularity: Yes; PCB/Cable/Panel: PCB; Pin Number: 3; Rated Current [UL]: 16A; Working Voltage [UL]: 300VAC; ComponentLink1Description: Manufacturer; ComponentLink1URL: http://www.we-online.de; ComponentLink2URL: https://katalog.we-online.de/em/datasheet/691254510003.pdf; ComponentLink2Description: Datasheet; Mounting Technology: THT; Packaging: Box; Operating Temperature: -30 to +120degC; Pitch: 5.08mm; Published Date: October 2019; Type: Horizontal; Publisher: Wurth Elektronik; Application: Rising Cage Clamp
footprint 691254510003
pins: 1, 2, 3

## 691254610001
designator J?
WR-TBL Serie 2546 Horizontal Cable Entry, Rising Cage Clamp, pitch 10.16mm, 1p; Part Number: 691254610001; Compliance: Lead free / RoHS; Modularity: Yes; PCB/Cable/Panel: PCB; Pin Number: 1; Rated Current [UL]: 16A; Working Voltage [UL]: 300VAC; ComponentLink1Description: Manufacturer; ComponentLink1URL: http://www.we-online.de; ComponentLink2URL: https://katalog.we-online.de/em/datasheet/691254610001.pdf; ComponentLink2Description: Datasheet; Mounting Technology: THT; Packaging: Box; Operating Temperature: -30 to +120degC; Pitch: 10.16mm; Published Date: October 2019; Type: Horizontal; Publisher: Wurth Elektronik; Application: Rising Cage Clamp
footprint 691254610001
pins: 1

## 691254610002
designator J?
WR-TBL Serie 2546 Horizontal Cable Entry, Rising Cage Clamp, pitch 10.16mm, 2p; Part Number: 691254610002; Compliance: Lead free / RoHS; Modularity: Yes; PCB/Cable/Panel: PCB; Pin Number: 2; Rated Current [UL]: 16A; Working Voltage [UL]: 300VAC; ComponentLink1Description: Manufacturer; ComponentLink1URL: http://www.we-online.de; ComponentLink2URL: https://katalog.we-online.de/em/datasheet/691254610002.pdf; ComponentLink2Description: Datasheet; Mounting Technology: THT; Packaging: Box; Operating Temperature: -30 to +120degC; Pitch: 10.16mm; Published Date: October 2019; Type: Horizontal; Publisher: Wurth Elektronik; Application: Rising Cage Clamp
footprint 691254610002
pins: 1, 2

## 691254610101
designator J?
WR-TBL Serie 2546 Horizontal Cable Entry, Rising Cage Clamp, pitch 10.16mm, 1p; Part Number: 691254610101; Compliance: Lead free / RoHS; Modularity: Yes; PCB/Cable/Panel: PCB; Pin Number: 1; Rated Current [UL]: 16A; Working Voltage [UL]: 300VAC; ComponentLink1Description: Manufacturer; ComponentLink1URL: http://www.we-online.de; ComponentLink2URL: https://katalog.we-online.de/em/datasheet/691254610101.pdf; ComponentLink2Description: Datasheet; Mounting Technology: THT; Packaging: Box; Operating Temperature: -30 to +120degC; Pitch: 10.16mm; Published Date: October 2019; Type: Horizontal; Publisher: Wurth Elektronik; Application: Rising Cage Clamp
footprint 691254610101
pins: 1

## 691254710002
designator J?
WR-TBL Serie 2547 Horizontal Cable Entry, Rising Cage Clamp, pitch 5mm, 2p; Part Number: 691254710002; Compliance: Lead free / RoHS; Modularity: Yes; PCB/Cable/Panel: PCB; Pin Number: 2; Rated Current [UL]: 16A; Working Voltage [UL]: 300VAC; ComponentLink1Description: Manufacturer; ComponentLink1URL: http://www.we-online.de; ComponentLink2URL: https://katalog.we-online.de/em/datasheet/691254710002.pdf; ComponentLink2Description: Datasheet; Mounting Technology: THT; Packaging: Box; Operating Temperature: -30 to +120degC; Pitch: 5mm; Published Date: October 2019; Type: Horizontal; Publisher: Wurth Elektronik; Application: Rising Cage Clamp
footprint 691254710002
pins: 1, 2

## 691254710003
designator J?
WR-TBL Serie 2547 Horizontal Cable Entry, Rising Cage Clamp, pitch 5mm, 3p; Part Number: 691254710003; Compliance: Lead free / RoHS; Modularity: Yes; PCB/Cable/Panel: PCB; Pin Number: 3; Rated Current [UL]: 16A; Working Voltage [UL]: 300VAC; ComponentLink1Description: Manufacturer; ComponentLink1URL: http://www.we-online.de; ComponentLink2URL: https://katalog.we-online.de/em/datasheet/691254710003.pdf; ComponentLink2Description: Datasheet; Mounting Technology: THT; Packaging: Box; Operating Temperature: -30 to +120degC; Pitch: 5mm; Published Date: October 2019; Type: Horizontal; Publisher: Wurth Elektronik; Application: Rising Cage Clamp
footprint 691254710003
pins: 1, 2, 3

## 691254810001
designator J?
WR-TBL Serie 2548 Horizontal Cable Entry, Rising Cage Clamp, pitch 10mm, 1p; Part Number: 691254810001; Compliance: Lead free / RoHS; Modularity: Yes; PCB/Cable/Panel: PCB; Pin Number: 1; Rated Current [UL]: 16A; Working Voltage [UL]: 300VAC; ComponentLink1Description: Manufacturer; ComponentLink1URL: http://www.we-online.de; ComponentLink2URL: https://katalog.we-online.de/em/datasheet/691254810001.pdf; ComponentLink2Description: Datasheet; Mounting Technology: THT; Packaging: Box; Operating Temperature: -30 to +120degC; Pitch: 10mm; Published Date: October 2019; Type: Horizontal; Publisher: Wurth Elektronik; Application: Rising Cage Clamp
footprint 691254810001
pins: 1

## 691254810002
designator J?
WR-TBL Serie 2548 Horizontal Cable Entry, Rising Cage Clamp, pitch 10mm, 2p; Part Number: 691254810002; Compliance: Lead free / RoHS; Modularity: Yes; PCB/Cable/Panel: PCB; Pin Number: 2; Rated Current [UL]: 16A; Working Voltage [UL]: 300VAC; ComponentLink1Description: Manufacturer; ComponentLink1URL: http://www.we-online.de; ComponentLink2URL: https://katalog.we-online.de/em/datasheet/691254810002.pdf; ComponentLink2Description: Datasheet; Mounting Technology: THT; Packaging: Box; Operating Temperature: -30 to +120degC; Pitch: 10mm; Published Date: October 2019; Type: Horizontal; Publisher: Wurth Elektronik; Application: Rising Cage Clamp
footprint 691254810002
pins: 1, 2

## 691254810101
designator J?
WR-TBL Serie 2548 Horizontal Cable Entry, Rising Cage Clamp, pitch 10mm, 1p; Part Number: 691254810101; Compliance: Lead free / RoHS; Modularity: Yes; PCB/Cable/Panel: PCB; Pin Number: 1; Rated Current [UL]: 16A; Working Voltage [UL]: 300VAC; ComponentLink1Description: Manufacturer; ComponentLink1URL: http://www.we-online.de; ComponentLink2URL: https://katalog.we-online.de/em/datasheet/691254810101.pdf; ComponentLink2Description: Datasheet; Mounting Technology: THT; Packaging: Box; Operating Temperature: -30 to +120degC; Pitch: 10mm; Published Date: October 2019; Type: Horizontal; Publisher: Wurth Elektronik; Application: Rising Cage Clamp
footprint 691254810101
pins: 1

## 691254910002
designator J?
WR-TBL Serie 2549 Horizontal Cable Entry, Rising Cage Clamp, pitch 7.5mm, 2p; Part Number: 691254910002; Compliance: Lead free / RoHS; Modularity: Yes; PCB/Cable/Panel: PCB; Pin Number: 2; Rated Current [UL]: 16A; Working Voltage [UL]: 300VAC; ComponentLink1Description: Manufacturer; ComponentLink1URL: http://www.we-online.de; ComponentLink2URL: https://katalog.we-online.de/em/datasheet/691254910002.pdf; ComponentLink2Description: Datasheet; Mounting Technology: THT; Packaging: Box; Operating Temperature: -30 to +120degC; Pitch: 7.5mm; Published Date: October 2019; Type: Horizontal; Publisher: Wurth Elektronik; Application: Rising Cage Clamp
footprint 691254910002
pins: 1, 2

## 691254910003
designator J?
WR-TBL Serie 2549 Horizontal Cable Entry, Rising Cage Clamp, pitch 7.5mm, 3p; Part Number: 691254910003; Compliance: Lead free / RoHS; Modularity: Yes; PCB/Cable/Panel: PCB; Pin Number: 3; Rated Current [UL]: 16A; Working Voltage [UL]: 300VAC; ComponentLink1Description: Manufacturer; ComponentLink1URL: http://www.we-online.de; ComponentLink2URL: https://katalog.we-online.de/em/datasheet/691254910003.pdf; ComponentLink2Description: Datasheet; Mounting Technology: THT; Packaging: Box; Operating Temperature: -30 to +120degC; Pitch: 7.5mm; Published Date: October 2019; Type: Horizontal; Publisher: Wurth Elektronik; Application: Rising Cage Clamp
footprint 691254910003
pins: 1, 2, 3

## 691256610002
designator J?
WR-TBL Serie 2566 Horizontal Entry, Rising Cage Clamp, pitch 10.16mm, 2p; Part Number: 691256610002; Compliance: Lead free / RoHS; Modularity: No; PCB/Cable/Panel: PCB; Pin Number: 2; Rated Current [UL]: 40A; Working Voltage [UL]: 300VAC; ComponentLink1Description: Manufacturer; ComponentLink1URL: http://www.we-online.de; ComponentLink2URL: https://katalog.we-online.de/em/datasheet/691256610002.pdf; ComponentLink2Description: Datasheet; Mounting Technology: THT; Packaging: Box; Operating Temperature: -30 to +120degC; Pitch: 10.16mm; Published Date: October 2019; Type: Horizontal; Publisher: Wurth Elektronik; Application: Rising Cage Clamp
footprint 691256610002
pins: 1, 2